# Altium schematic symbol library 10uF 6.3V Tantalum TAJR106K006RNJ.Schlib: 1 symbol
Pins are listed as number, name and electrical type; pins without a type are passive.

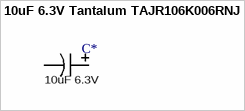
[diagram p0: symbol 10uF 6.3V Tantalum TAJR106K006RNJ]

## 10uF 6.3V Tantalum TAJR106K006RNJ
designator C*  value 10uF 6.3V  (hidden comment: *)
10uF ±10% 6.3V 6 Ω @ 100kHz -55℃ ~ +125℃ CASE-R_2012 Tantalum Capacitors RoHS; ComponentLink1Description: LCSC - AVX TAJR106K006RNJ; ComponentLink1URL: https://lcsc.com/product-detail/Tantalum-Capacitors_AVX-TAJR106K006RNJ_C132274.html; LCSC Part #: C7235
footprint AVX TAJR106K006RNJ
pins: 1, 2